# EAGLE library part FT230X (library usbxlater)
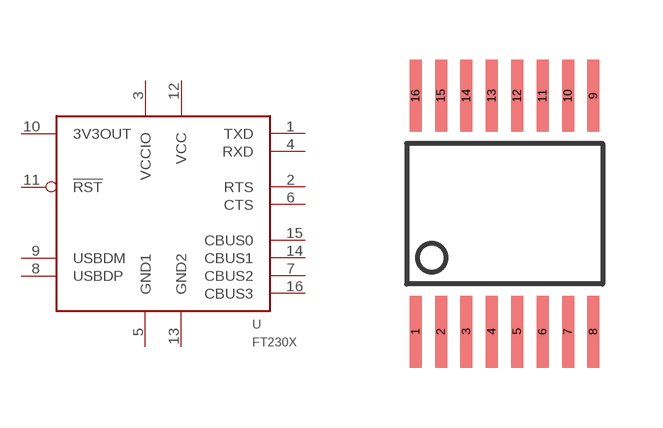
[diagram p4: symbol with the pads of SSOP16; footprint SSOP16]

Designator prefix U

## FT230XS  [SSOP16]
1  TXD  out
2  RTS
3  VCCIO  pwr
4  RXD  in
5  GND1  pwr
6  CTS
7  CBUS2
8  USBDP
9  USBDM
10  3V3OUT  pwr
11  !RST  in
12  VCC  pwr
13  GND2  pwr
14  CBUS1
15  CBUS0
16  CBUS3

## Footprint SSOP16 (pad centres in mm)
smd 0.3 x 1.8: 1 -2.223,-2.95; 2 -1.587,-2.95; 3 -0.953,-2.95; 4 -0.318,-2.95; 5 0.318,-2.95; 6 0.953,-2.95; 7 1.587,-2.95; 8 2.223,-2.95; 9 2.223,2.95; 10 1.587,2.95; 11 0.953,2.95; 12 0.318,2.95; 13 -0.318,2.95; 14 -0.953,2.95; 15 -1.587,2.95; 16 -2.223,2.95